# EAGLE library part SIP-8_ (library NVSL)
Generic single row in-line pin header or receptacle, 8 pin, 2.54 mm or 2mm pin spacing etc., male and female versions, shrouded or not, verticle or right angle
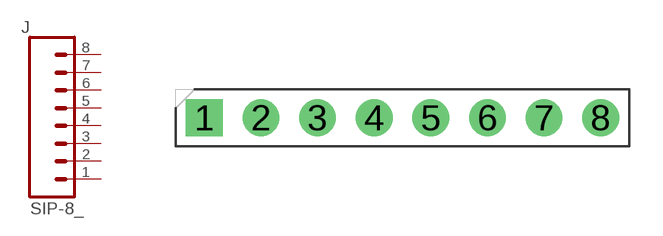
[diagram p18: symbol with the pads of HDRV8W63P254_8X1_2032X254H838_HS; footprint HDRV8W63P254_8X1_2032X254H838_HS]

Designator prefix J

## SIP-8_2.54-SPACE-VERTICAL  [HDRV8W63P254_8X1_2032X254H838_HS]
1  1  pas
2  2  pas
3  3  pas
4  4  pas
5  5  pas
6  6  pas
7  7  pas
8  8  pas

## Footprint HDRV8W63P254_8X1_2032X254H838_HS (pad centres in mm)
Header, Vertical, 2.54 mm pitch; 0.635 mm lead width, 8 pins, 1 row, 8 pins per row, 20.32 mm L X 2.54 mm W X 8.38 mm H body PCB Libraries Packages
drill 1.1 pad 1.65 square: 1 0,0
drill 1.1 pad 1.65: 2 2.54,0; 3 5.08,0; 4 7.62,0; 5 10.16,0; 6 12.7,0; 7 15.24,0; 8 17.78,0